# Altium footprint library Relay.PcbLib: 1 footprints
Each footprint in its own frame and in the unit in brackets; x right, y up, seen from the top. Pads: shape width x height; smd on the part's side, far side on the other; paste and mask are expansions set on the pad; w line width, h text height; cw(c..) or ccw(c..) is an arc to the next point about the centre after c.
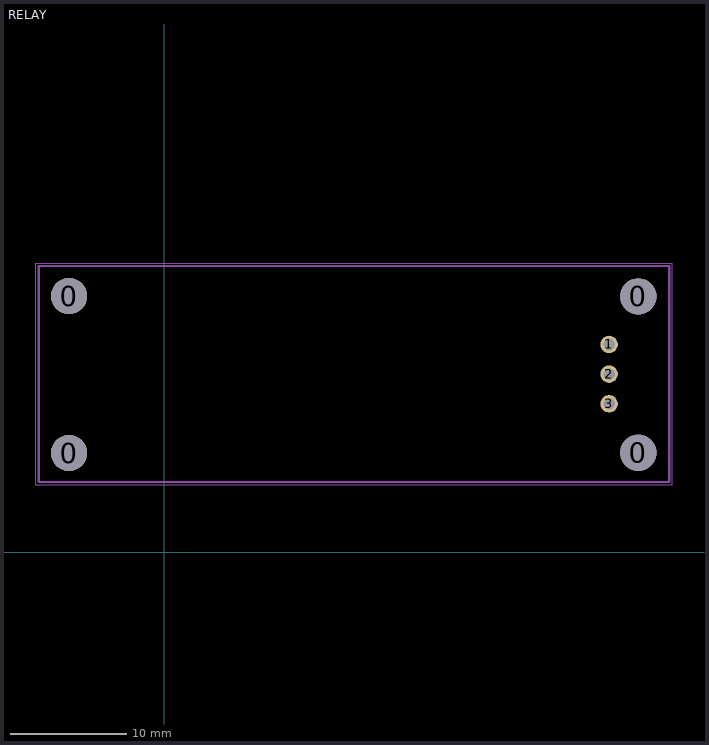
[diagram p0: the footprint, top view; thin cyan lines are the x and y axes]

## RELAY [mm]
pads (7):
  round 3.1 hole 3.1: 0(-8.153,8.484) 0(-8.153,21.92) 0(40.6,8.5) 0(40.6,21.9)
  round 1.5 hole 1: 1(38.1,17.78) 2(38.1,15.24) 3(38.1,12.7)
Mechanical 3:
  lines w0.1: -11,5.75 43.5,5.75 43.5,24.75 -11,24.75 -11,5.75
  lines w0.2: -10.75,6 43.25,6 43.25,24.5 -10.75,24.5 -10.75,6
3D body "RelayBoard 1CH.STEP": height 17.13, standoff -2.18, extent -10.44,6.183 42.9,24.217